# EAGLE library part DOOBA_AECHO_NOAOUT (library dooba)
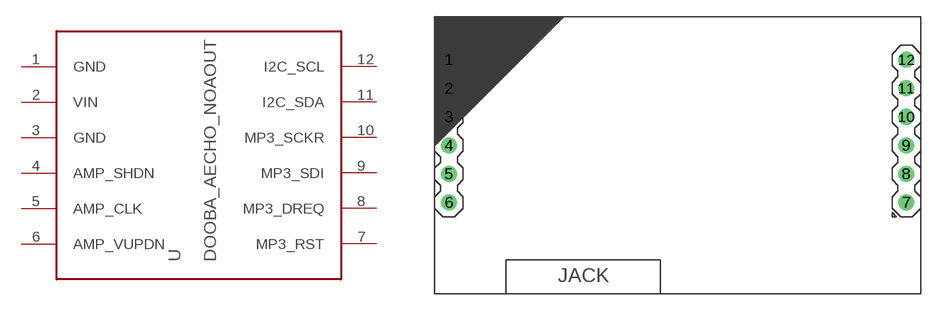
[diagram p32: symbol with the pads of DOOBA_AECHO_NOAOUT; footprint DOOBA_AECHO_NOAOUT]

Designator prefix U

## DOOBA_AECHO_NOAOUT  [DOOBA_AECHO_NOAOUT]
1  GND
2  VIN
3  GND
4  AMP_SHDN
5  AMP_CLK
6  AMP_VUPDN
7  MP3_RST
8  MP3_DREQ
9  MP3_SDI
10  MP3_SCKR
11  I2C_SDA
12  I2C_SCL

## Footprint DOOBA_AECHO_NOAOUT (pad centres in mm)
drill 0.8 pad 1.422: 1 -20.32,6.35; 2 -20.32,3.81; 3 -20.32,1.27; 4 -20.32,-1.27; 5 -20.32,-3.81; 6 -20.32,-6.35; 7 20.32,-6.35; 8 20.32,-3.81; 9 20.32,-1.27; 10 20.32,1.27; 11 20.32,3.81; 12 20.32,6.35